# EAGLE library part LM386M-1/NOPB (library LM386M-1_NOPB)
Audio Amplifiers LOW VLTG AUDIO PWR AMP
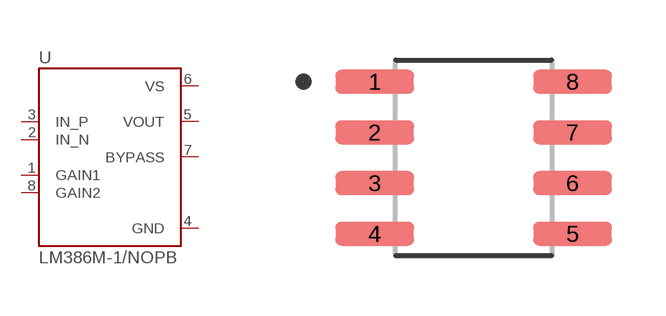
[diagram p0: symbol with the pads of SOIC127P600X175-8N; footprint SOIC127P600X175-8N]

Designator prefix U

## LM386M-1/NOPB (AVAILABILITY: Unavailable; DESCRIPTION: Amplifier IC 1-Channel _Mono_ Class AB 8-SOIC; MF: Texas Instruments; MP: LM386M-1; PACKAGE: SOIC-8 Texas Instruments; PRICE: None)  [SOIC127P600X175-8N]
1  GAIN1  pas
2  IN_N  in
3  IN_P  in
4  GND  pwr
5  VOUT  out
6  VS  pwr
7  BYPASS  out
8  GAIN2  pas

## Footprint SOIC127P600X175-8N (pad centres in mm)
smd 1.97 x 0.6: 1 -2.475,1.905; 2 -2.475,0.635; 3 -2.475,-0.635; 4 -2.475,-1.905; 5 2.475,-1.905; 6 2.475,-0.635; 7 2.475,0.635; 8 2.475,1.905